# EAGLE library part TRANSISTOR-NPN-DUAL (library Pinoccio)
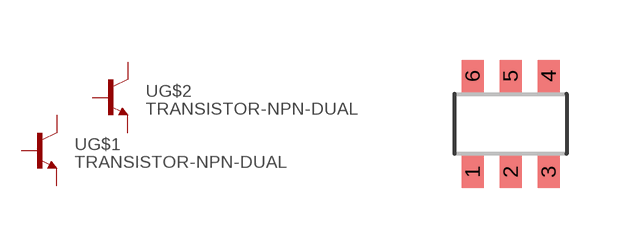
[diagram p2: symbol with the pads of SOT457R_PHILIPS; footprint SOT457R_PHILIPS]

Designator prefix -; gates G$1=NPN G$2=NPN

## TRANSISTOR-NPN-DUAL  [SOT457R_PHILIPS]
1  G$1:E  pas
2  G$1:B  pas
3  G$2:C  pas
4  G$2:E  pas
5  G$2:B  pas
6  G$1:C  pas

## Footprint SOT457R_PHILIPS (pad centres in mm)
Small Outline Transistor; 6 leads SOT457 (SC-74) FOOTPRINT (REFLOW SOLDERING) Philips Semiconductors, sot457-(sc-74)-reflow-wave.pdf
smd 0.55 x 0.8: 1 -0.95,-1.2; 2 0,-1.2; 3 0.95,-1.2; 4 0.95,1.2; 5 0,1.2; 6 -0.95,1.2